# Altium footprint library ferrite_bead.PcbLib: 2 footprints
Each footprint in its own frame and in the unit in brackets; x right, y up, seen from the top. Pads: shape width x height; smd on the part's side, far side on the other; paste and mask are expansions set on the pad; w line width, h text height; cw(c..) or ccw(c..) is an arc to the next point about the centre after c.
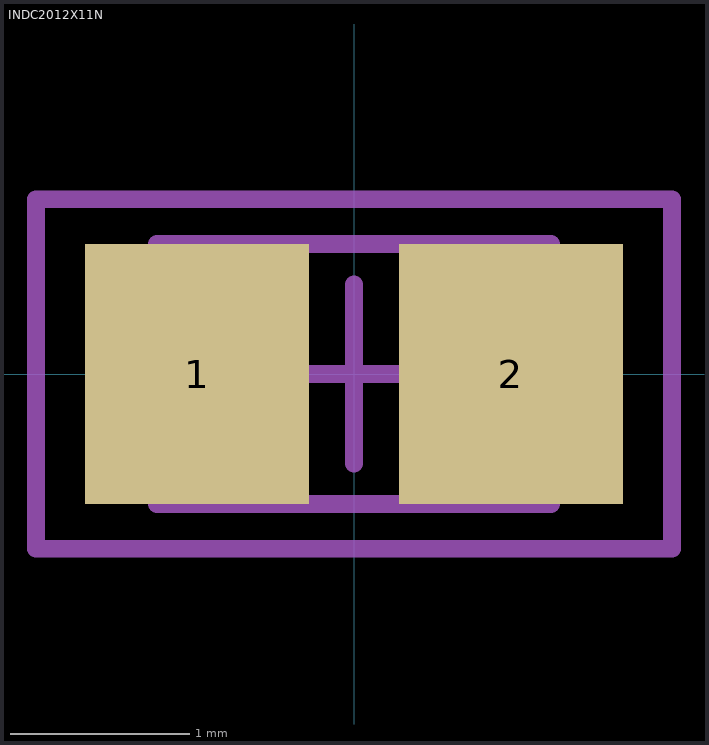
[diagram p0: the footprints below, top view; thin cyan lines are the x and y axes]

## INDC2012X11N [mm] "Chip Inductor, 2-Leads, Body 2.0x1.3mm, IPC Medium Density"
height 1.1
pads (2):
  rect 1.25x1.45 smd: 1(-0.875,0) 2(0.875,0)
Mechanical 13:
  lines w0.1: -1.1,-0.725 1.1,-0.725 1.1,0.725 -1.1,0.725 -1.1,-0.725
Mechanical 15:
  lines w0.1: -0.5,0 0.5,0 ; 0,-0.5 0,0.5 ; -1.775,-0.975 1.775,-0.975 1.775,0.975 -1.775,0.975 -1.775,-0.975
3D body: height 1.1, standoff 0, extent -1.1,-0.725 1.1,0.725

## INDM2012X11N [mm] "Molded Inductor, 2-Leads, Body 2.0x1.3mm, IPC Medium Density"
height 1.1